# Altium footprint library SC_BTM51x.PcbLib: 3 footprints
Each footprint in its own frame and in the unit in brackets; x right, y up, seen from the top. Pads: shape width x height; smd on the part's side, far side on the other; paste and mask are expansions set on the pad; w line width, h text height; cw(c..) or ccw(c..) is an arc to the next point about the centre after c.
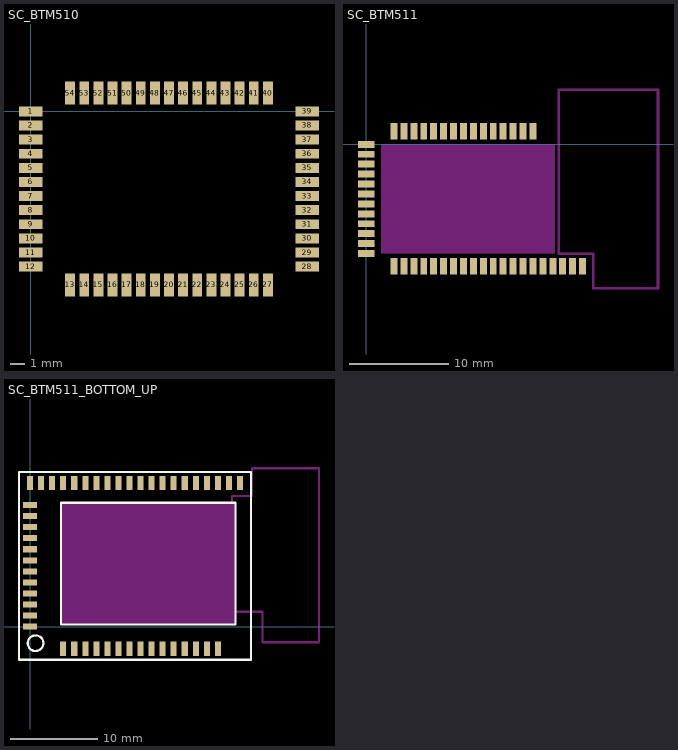
[diagram p0: the footprints below, top view; thin cyan lines are the x and y axes]

## SC_BTM510 [mm]
pads (54):
  rect 1.65x0.7 smd: 1(0,0) 2(0,-1) 3(0,-2) 4(0,-3) 5(0,-4) 6(0,-5) 7(0,-6) 8(0,-7) 9(0,-8) 10(0,-9) 11(0,-10) 12(0,-11) 28(19.6,-11) 29(19.6,-10) 30(19.6,-9) 31(19.6,-8) 32(19.6,-7) 33(19.6,-6) 34(19.6,-5) 35(19.6,-4) 36(19.6,-3) 37(19.6,-2) 38(19.6,-1) 39(19.6,0)
  rect 0.7x1.65 smd: 13(2.8,-12.3) 14(3.8,-12.3) 15(4.8,-12.3) 16(5.8,-12.3) 17(6.8,-12.3) 18(7.8,-12.3) 19(8.8,-12.3) 20(9.8,-12.3) 21(10.8,-12.3) 22(11.8,-12.3) 23(12.8,-12.3) 24(13.8,-12.3) 25(14.8,-12.3) 26(15.8,-12.3) 27(16.8,-12.3) 40(16.8,1.3) 41(15.8,1.3) 42(14.8,1.3) 43(13.8,1.3) 44(12.8,1.3) 45(11.8,1.3) 46(10.8,1.3) 47(9.8,1.3) 48(8.8,1.3) 49(7.8,1.3) 50(6.8,1.3) 51(5.8,1.3) 52(4.8,1.3) 53(3.8,1.3) 54(2.8,1.3)
3D body: height 3.4, standoff 0, extent -0.25,-12.5 19.75,1.5

## SC_BTM511 [mm]
pads (47):
  rect 1.65x0.7 smd: 1(0,0) 2(0,-1) 3(0,-2) 4(0,-3) 5(0,-4) 6(0,-5) 7(0,-6) 8(0,-7) 9(0,-8) 10(0,-9) 11(0,-10) 12(0,-11)
  rect 0.7x1.65 smd: 13(2.8,-12.3) 14(3.8,-12.3) 15(4.8,-12.3) 16(5.8,-12.3) 17(6.8,-12.3) 18(7.8,-12.3) 19(8.8,-12.3) 20(9.8,-12.3) 21(10.8,-12.3) 22(11.8,-12.3) 23(12.8,-12.3) 24(13.8,-12.3) 25(14.8,-12.3) 26(15.8,-12.3) 27(16.8,-12.3) 28(17.8,-12.3) 29(18.8,-12.3) 30(19.8,-12.3) 31(20.8,-12.3) 32(21.8,-12.3) 40(16.8,1.3) 41(15.8,1.3) 42(14.8,1.3) 43(13.8,1.3) 44(12.8,1.3) 45(11.8,1.3) 46(10.8,1.3) 47(9.8,1.3) 48(8.8,1.3) 49(7.8,1.3) 50(6.8,1.3) 51(5.8,1.3) 52(4.8,1.3) 53(3.8,1.3) 54(2.8,1.3)
Top Layer keep-out:
  rectangle: 1.5,-11 19,0
Keep-Out Layer:
  lines w0.254: 19.4,-11 19.4,5.5 29.4,5.5 29.4,-14.5 26.9,-14.5 22.9,-14.5 22.9,-11 19.4,-11
3D body: height 3.4, standoff 0, extent -0.25,-12.5 19.75,1.5

## SC_BTM511_BOTTOM_UP [mm] "For easy soldering, stick module bottom side up to PCB and use wires to connect the pins to the pads."
pads (47):
  rect 1.65x0.7 smd: 1(0,0) 2(0,1.27) 3(0,2.54) 4(0,3.81) 5(0,5.08) 6(0,6.35) 7(0,7.62) 8(0,8.89) 9(0,10.16) 10(0,11.43) 11(0,12.7) 12(0,13.97)
  rect 0.7x1.65 smd: 13(0,16.51) 14(1.27,16.51) 15(2.54,16.51) 16(3.81,16.51) 17(5.08,16.51) 18(6.35,16.51) 19(7.62,16.51) 20(8.89,16.51) 21(10.16,16.51) 22(11.43,16.51) 23(12.7,16.51) 24(13.97,16.51) 25(15.24,16.51) 26(16.51,16.51) 27(17.78,16.51) 28(19.05,16.51) 29(20.32,16.51) 30(21.59,16.51) 31(22.86,16.51) 32(24.13,16.51) 40(21.59,-2.54) 41(20.32,-2.54) 42(19.05,-2.54) 43(17.78,-2.54) 44(16.51,-2.54) 45(15.24,-2.54) 46(13.97,-2.54) 47(12.7,-2.54) 48(11.43,-2.54) 49(10.16,-2.54) 50(8.89,-2.54) 51(7.62,-2.54) 52(6.35,-2.54) 53(5.08,-2.54) 54(3.81,-2.54)
Top Layer keep-out:
  rectangle: 3.556,0.254 23.622,14.224
Top Overlay:
  circle w0.254: c0.635,-1.905 r0.898
  lines w0.254: -1.27,-3.81 25.4,-3.81 25.4,17.78 -1.27,17.78 -1.27,-3.81 ; 3.556,0.254 3.556,14.224 23.622,14.224 23.622,0.254 3.556,0.254
Keep-Out Layer:
  lines w0.254: 23.21,1.7 26.71,1.7 26.71,-1.8 30.71,-1.8 33.21,-1.8 33.21,18.2 25.5,18.2 25.5,15 23.21,15 23.21,1.99
3D body: height 3.4, standoff 0, extent 3.56,0.2 23.56,14.2